# Altium footprint library PTPSM63606RDLR.PcbLib: 1 footprints
Each footprint in its own frame and in the unit in brackets; x right, y up, seen from the top. Pads: shape width x height; smd on the part's side, far side on the other; paste and mask are expansions set on the pad; w line width, h text height; cw(c..) or ccw(c..) is an arc to the next point about the centre after c.
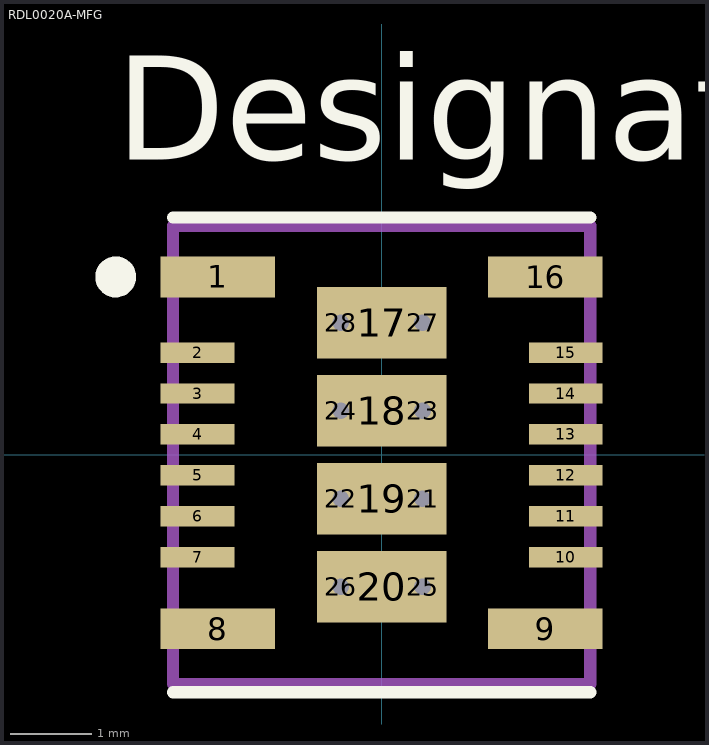
[diagram p0: the footprint, top view; thin cyan lines are the x and y axes]

## RDL0020A-MFG [mm]
pads (28):
  rect 1.4x0.5 smd paste-0.687 mask+0: 1(-2,2.175) 8(-2,-2.125) 9(2,-2.125) 16(2,2.175)
  rect 0.9x0.25 smd paste-0.437 mask+0: 2(-2.25,1.25) 3(-2.25,0.75) 4(-2.25,0.25) 5(-2.25,-0.25) 6(-2.25,-0.75) 7(-2.25,-1.25) 10(2.25,-1.25) 11(2.25,-0.75) 12(2.25,-0.25) 13(2.25,0.25) 14(2.25,0.75) 15(2.25,1.25)
  rect 1.58x0.875 smd paste-0.777 mask+0: 17(0,1.613) 18(0,0.538) 19(0,-0.538) 20(0,-1.613)
  round 0.5 / inner round 1.524 / far side round 0.5 hole 0.203 paste-0.25 mask+0: 21(0.5,-0.538) 22(-0.5,-0.538) 23(0.5,0.538) 24(-0.5,0.538) 25(0.5,-1.613) 26(-0.5,-1.613) 27(0.5,1.613) 28(-0.5,1.613)
Top Overlay:
  circle w0.25: c-3.25,2.175 r0.125
  lines w0.15: -2.55,-2.9 2.55,-2.9 ; -2.55,2.9 2.55,2.9
  text "Designator34" at -3.251,3.607 h1.27
Top Paste:
  drawing of 20 lines, arcs and shapes, not listed
Mechanical 13:
  lines w0.15: -2.55,-2.8 -2.55,2.8 2.55,2.8 2.55,-2.8 -2.55,-2.8